# EAGLE library part PINHD-1X6 (library pinheader)
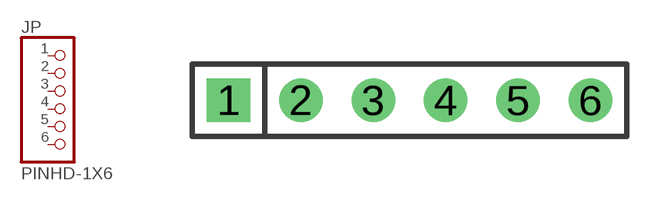
[diagram p1: symbol with the pads of 1X06; footprint 1X06]

Designator prefix JP

## PINHD-1X6  [1X06]
1  1  pas
2  2  pas
3  3  pas
4  4  pas
5  5  pas
6  6  pas

## Footprint 1X06 (pad centres in mm)
drill 1.016 square: 1 -6.35,0
drill 1.016: 2 -3.81,0; 3 -1.27,0; 4 1.27,0; 5 3.81,0; 6 6.35,0